# Altium schematic symbol library KX-327NHT.SchLib: 1 symbol
Pins are listed as number, name and electrical type; pins without a type are passive.

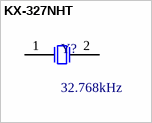
[diagram p0: symbol KX-327NHT]

## KX-327NHT
designator Y?, comment 32.768kHz
PartNumber: KX-327NHT; Manufacturer: GEYER; Frequency: 32.768 kHz; HelpURL: http://www.kosmodrom.com.ua/pdf/KX-327NHT.pdf
footprint KX-327NHT
pins: 1 X1, 2 X2